# Altium schematic symbol library CAP 5.6pF 50V.Schlib: 1 symbol
Pins are listed as number, name and electrical type; pins without a type are passive.

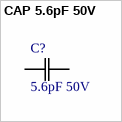
[diagram p0: symbol CAP 5.6pF 50V]

## CAP 5.6pF 50V
designator C?, comment 5.6pF 50V
CAP CER 5.6PF 50V C0G/NP0 0805
pins: 1 C1, 2 C2